# Altium schematic symbol library HCPL_3210.SchLib: 1 symbol
Pins are listed as number, name and electrical type; pins without a type are passive.

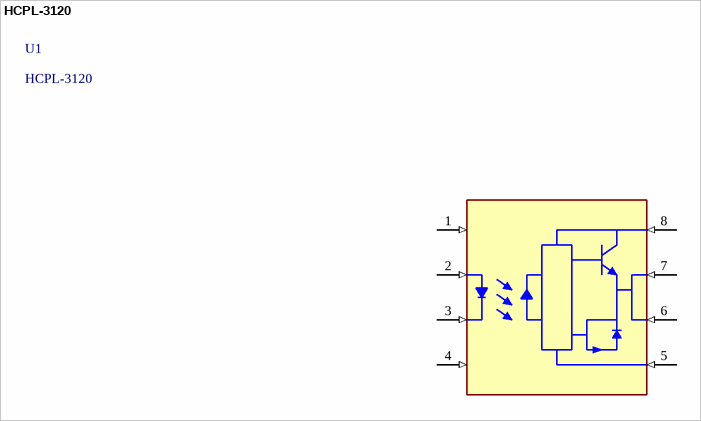
[diagram p0: symbol HCPL-3120]

## HCPL-3120
designator U1
Optocoupler Drive Push-Pull 1-CH 30V 1500V 8-Pin PDIP Tube
footprint FP-DIP-8-MFG
pins: 1 N/C (in), 2 ANODE (in), 3 CATHODE (in), 4 N/C (in), 5 VEE (in), 6 VO (in), 7 VO (in), 8 VCC (in)